# Altium footprint library XTAL3215.PcbLib: 1 footprints
Each footprint in its own frame and in the unit in brackets; x right, y up, seen from the top. Pads: shape width x height; smd on the part's side, far side on the other; paste and mask are expansions set on the pad; w line width, h text height; cw(c..) or ccw(c..) is an arc to the next point about the centre after c.
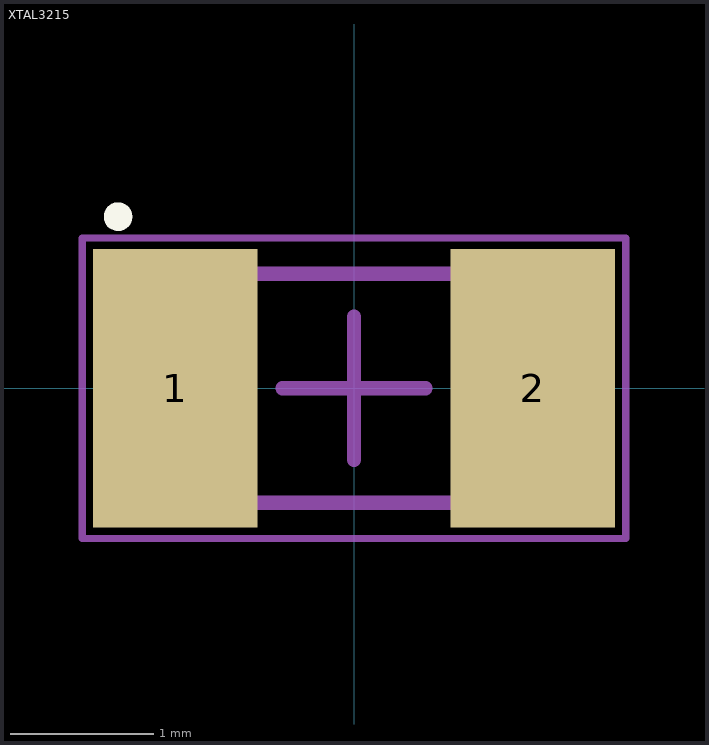
[diagram p0: the footprint, top view; thin cyan lines are the x and y axes]

## XTAL3215 [mm] "DFN, 2-Leads, Body 1.50x3.20mm, Pitch 2.50mm, IPC Medium Density"
height 0.75
pads (2):
  rect 1.15x1.95 smd: 1(-1.25,0) 2(1.25,0)
Top Overlay:
  circle w0.1: c-1.65,1.2 r0.05
Mechanical 13:
  lines w0.1: -1.65,-0.8 1.65,-0.8 1.65,0.8 -1.65,0.8 -1.65,-0.8
Mechanical 15:
  lines w0.05: -1.9,-1.05 1.9,-1.05 1.9,1.05 -1.9,1.05 -1.9,-1.05
  lines w0.1: -0.5,0 0.5,0 ; 0,-0.5 0,0.5
3D body: height 0.75, standoff 0, extent -1.65,-0.8 1.65,0.8